# EAGLE library part P097S (library pot-tt_electronics)
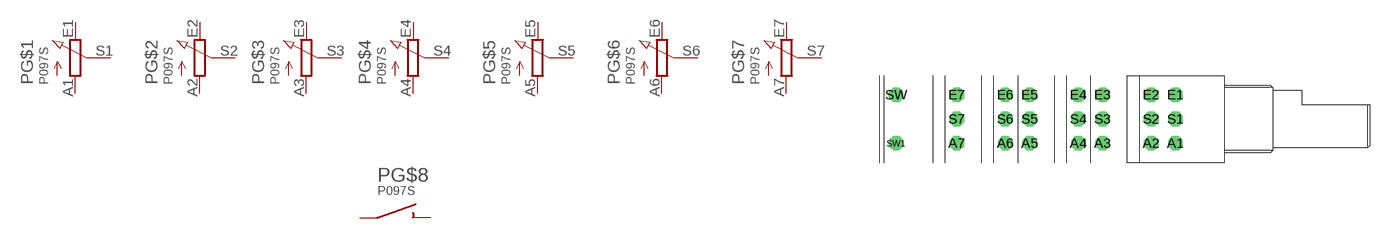
[diagram p11: symbol with the pads of P097S; footprint P097S]

Designator prefix P; gates G$1=POT_EU- G$2=POT_EU- G$3=POT_EU- G$4=POT_EU- G$5=POT_EU- G$6=POT_EU- G$7=POT_EU- G$8=SW

## P097S  [P097S]
A1  G$1:A  pas
A2  G$2:A  pas
A3  G$3:A  pas
A4  G$4:A  pas
A5  G$5:A  pas
A6  G$6:A  pas
A7  G$7:A  pas
E1  G$1:E  pas
E2  G$2:E  pas
E3  G$3:E  pas
E4  G$4:E  pas
E5  G$5:E  pas
E6  G$6:E  pas
E7  G$7:E  pas
S1  G$1:S  pas
S2  G$2:S  pas
S3  G$3:S  pas
S4  G$4:S  pas
S5  G$5:S  pas
S6  G$6:S  pas
S7  G$7:S  pas
SW  G$8:SW  pas
SW1  G$8:SW1  pas

## Footprint P097S (pad centres in mm)
drill 1 octagon: A1 -10,-2.5; A2 -12.5,-2.5; A3 -17.5,-2.5; A4 -20,-2.5; A5 -25,-2.5; A6 -27.5,-2.5; A7 -32.5,-2.5; E1 -10,2.5; E2 -12.5,2.5; E3 -17.5,2.5; E4 -20,2.5; E5 -25,2.5; E6 -27.5,2.5; E7 -32.5,2.5; S1 -10,0; S2 -12.5,0; S3 -17.5,0; S4 -20,0; S5 -25,0; S6 -27.5,0; S7 -32.5,0; SW -38.75,2.5; SW1 -38.75,-2.5